# EAGLE library part CIRCUITECTS_MAX30003 (library LinnesLab-Sensors)
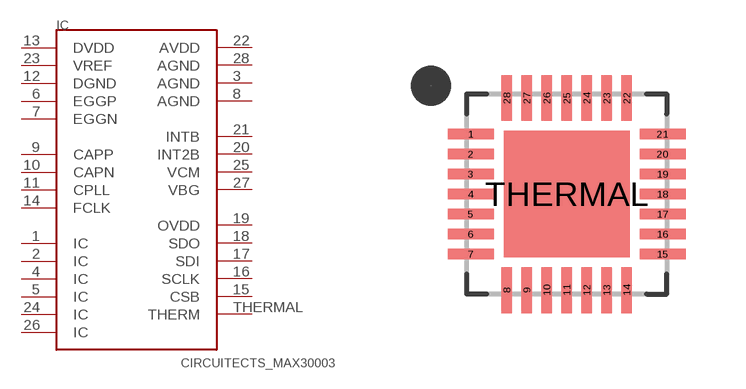
[diagram p28: symbol with the pads of CIRCUITECTS_QFN-28; footprint CIRCUITECTS_QFN-28]

Designator prefix IC

## CIRCUITECTS_MAX30003  [CIRCUITECTS_QFN-28]
1  IC
2  IC
3  AGND
4  IC
5  IC
6  EGGP
7  EGGN
8  AGND
9  CAPP
10  CAPN
11  CPLL
12  DGND
13  DVDD
14  FCLK
15  CSB
16  SCLK
17  SDI
18  SDO
19  OVDD
20  INT2B
21  INTB
22  AVDD
23  VREF
24  IC
25  VCM
26  IC
27  VBG
28  AGND
THERMAL  THERM

## Footprint CIRCUITECTS_QFN-28 (pad centres in mm)
smd 1.15 x 0.27: 1 -2.4,1.5; 2 -2.4,1; 3 -2.4,0.5; 4 -2.4,0; 5 -2.4,-0.5; 6 -2.4,-1; 7 -2.4,-1.5; 15 2.4,-1.5; 16 2.4,-1; 17 2.4,-0.5; 18 2.4,0; 19 2.4,0.5; 20 2.4,1; 21 2.4,1.5
smd 0.27 x 1.15: 8 -1.5,-2.4; 9 -1,-2.4; 10 -0.5,-2.4; 11 0,-2.4; 12 0.5,-2.4; 13 1,-2.4; 14 1.5,-2.4; 22 1.5,2.4; 23 1,2.4; 24 0.5,2.4; 25 0,2.4; 26 -0.5,2.4; 27 -1,2.4; 28 -1.5,2.4
smd 3.15 x 3.15: THERMAL 0,0